# Altium footprint library lib.PcbLib: 39 footprints (part 1 of 3)
Each footprint in its own frame and in the unit in brackets; x right, y up, seen from the top. Pads: shape width x height; smd on the part's side, far side on the other; paste and mask are expansions set on the pad; w line width, h text height; cw(c..) or ccw(c..) is an arc to the next point about the centre after c.
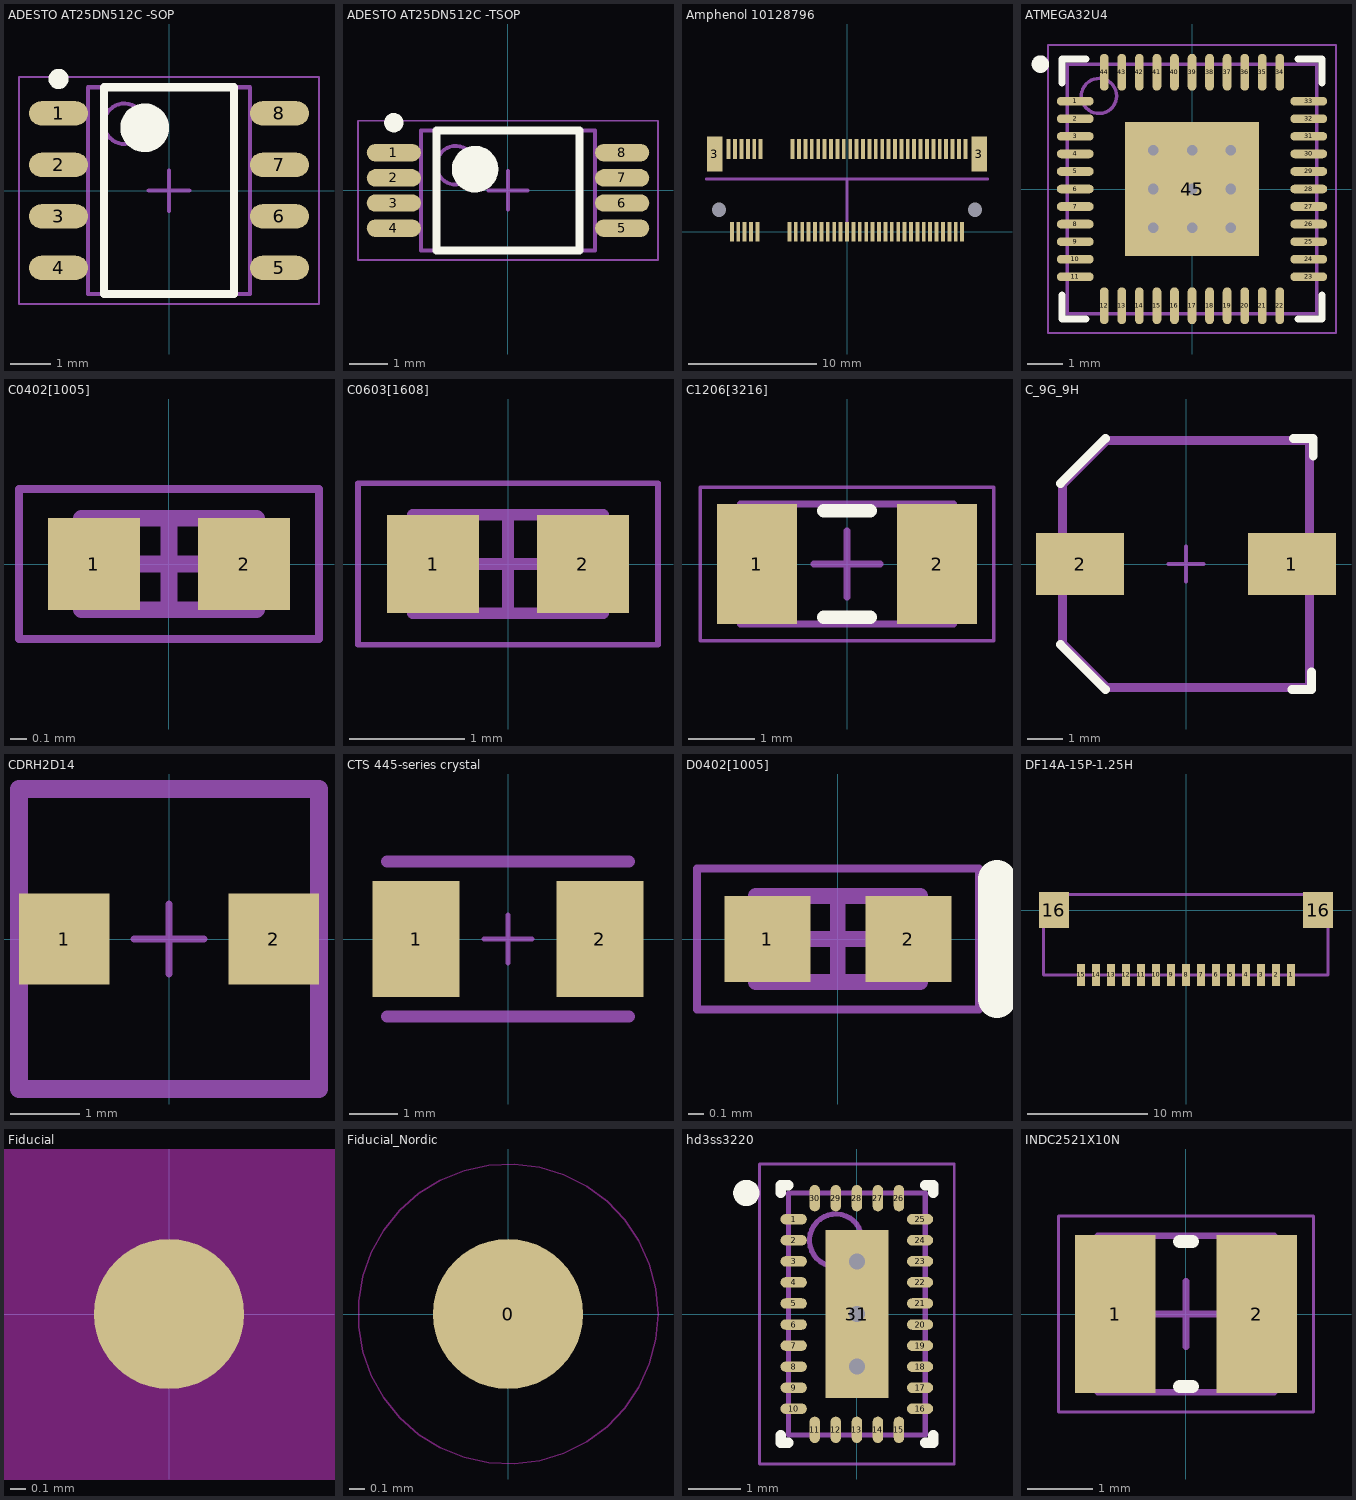
[diagram p0: the footprints below, top view; thin cyan lines are the x and y axes]

## ADESTO AT25DN512C -SOP [mm] "SOIC, 8-Leads, Body 4,92x3,90mm, Pitch 1,27mm, IPC Medium Density"
height 1.75
pads (8):
  oval 1.45x0.6 smd: 1(-2.725,1.905) 2(-2.725,0.635) 3(-2.725,-0.635) 4(-2.725,-1.905) 5(2.725,-1.905) 6(2.725,-0.635) 7(2.725,0.635) 8(2.725,1.905)
Top Overlay:
  circle w0.6: c-0.6,1.55 r0.3
  circle w0.25: c-2.725,2.755 r0.125
  lines w0.2: -1.6,-2.55 1.6,-2.55 1.6,2.55 -1.6,2.55 -1.6,-2.55
Mechanical 13:
  circle w0.1: c-1.1,1.65 r0.5
  lines w0.1: -2,-2.55 2,-2.55 2,2.55 -2,2.55 -2,-2.55
Mechanical 15:
  lines w0.05: -3.7,-2.8 3.7,-2.8 3.7,2.8 -3.7,2.8 -3.7,-2.8
  lines w0.1: -0.5,0 0.5,0 ; 0,-0.5 0,0.5
3D body "ADESTO AT25DN512C.step": height 1.75, standoff 0, extent -2.997,-2.55 2.997,2.55

## ADESTO AT25DN512C -TSOP [mm] "TSOP, 8-Leads, Body 3,00x4,40mm, Pitch 0,65mm, IPC Medium Density"
height 1.2
pads (8):
  oval 1.4x0.45 smd: 1(-2.95,0.975) 2(-2.95,0.325) 3(-2.95,-0.325) 4(-2.95,-0.975) 5(2.95,-0.975) 6(2.95,-0.325) 7(2.95,0.325) 8(2.95,0.975)
Top Overlay:
  circle w0.25: c-2.95,1.75 r0.125
  circle w0.6: c-0.85,0.55 r0.3
  lines w0.2: -1.85,-1.55 -1.85,1.55 1.85,1.55 1.85,-1.55 -1.85,-1.55
Mechanical 13:
  circle w0.1: c-1.35,0.65 r0.5
  lines w0.1: -2.25,-1.55 -2.25,1.55 2.25,1.55 2.25,-1.55 -2.25,-1.55
Mechanical 15:
  lines w0.05: -3.875,-1.8 -3.875,1.8 3.875,1.8 3.875,-1.8 -3.875,-1.8
  lines w0.1: -0.5,0 0.5,0 ; 0,-0.5 0,0.5
3D body "ADESTO AT25DN512C -TSOP.step": height 1.2, standoff 0, extent -3.2,-1.55 3.2,1.55

## Amphenol 10128796 [mm]
pads (71):
  rect 0.3x1.55 smd: 1(-9.25,6.45) 2(-9,0) 3(-8.75,6.45) 4(-8.5,0) 5(-8.25,6.45) 6(-8,0) 7(-7.75,6.45) 8(-7.5,0) 9(-7.25,6.45) 10(-7,0) 11(-6.75,6.45) 20(-4.5,0) 21(-4.25,6.45) 22(-4,0) 23(-3.75,6.45) 24(-3.5,0) 25(-3.25,6.45) 26(-3,0) 27(-2.75,6.45) 28(-2.5,0) 29(-2.25,6.45) 30(-2,0) 31(-1.75,6.45) 32(-1.5,0) 33(-1.25,6.45) 34(-1,0) 35(-0.75,6.45) 36(-0.5,0) 37(-0.25,6.45) 38(0,0) 39(0.25,6.45) 40(0.5,0) 41(0.75,6.45) 42(1,0) 43(1.25,6.45) 44(1.5,0) 45(1.75,6.45) 46(2,0) 47(2.25,6.45) 48(2.5,0) 49(2.75,6.45) 50(3,0) 51(3.25,6.45) 52(3.5,0) 53(3.75,6.45) 54(4,0) 55(4.25,6.45) 56(4.5,0) 57(4.75,6.45) 58(5,0) 59(5.25,6.45) 60(5.5,0) 61(5.75,6.45) 62(6,0) 63(6.25,6.45) 64(6.5,0) 65(6.75,6.45) 66(7,0) 67(7.25,6.45) 68(7.5,0) 69(7.75,6.45) 70(8,0) 71(8.25,6.45) 72(8.5,0) 73(8.75,6.45) 74(9,0) 75(9.25,6.45)
  rect 1.2x2.75 smd: 3(-10.35,6.07) 3(10.35,6.07)
  round 0 hole 1.1 unplated: ""(-10,1.715) ""(10,1.715)
Mechanical 13:
  lines w0.2: -11,4.115 11,4.115 ; 0,-0.025 0,4.115
3D body "10128796.stp": height 0.1, standoff -9, extent -10.928,-0.325 10.922,6.325

## ATMEGA32U4 [mm]
height 1
pads (45):
  oval 1.05x0.25 smd: 1(-3.325,2.5) 2(-3.325,2) 3(-3.325,1.5) 4(-3.325,1) 5(-3.325,0.5) 6(-3.325,0) 7(-3.325,-0.5) 8(-3.325,-1) 9(-3.325,-1.5) 10(-3.325,-2) 11(-3.325,-2.5) 23(3.325,-2.5) 24(3.325,-2) 25(3.325,-1.5) 26(3.325,-1) 27(3.325,-0.5) 28(3.325,0) 29(3.325,0.5) 30(3.325,1) 31(3.325,1.5) 32(3.325,2) 33(3.325,2.5)
  oval 0.25x1.05 smd: 12(-2.5,-3.325) 13(-2,-3.325) 14(-1.5,-3.325) 15(-1,-3.325) 16(-0.5,-3.325) 17(0,-3.325) 18(0.5,-3.325) 19(1,-3.325) 20(1.5,-3.325) 21(2,-3.325) 22(2.5,-3.325) 34(2.5,3.325) 35(2,3.325) 36(1.5,3.325) 37(1,3.325) 38(0.5,3.325) 39(0,3.325) 40(-0.5,3.325) 41(-1,3.325) 42(-1.5,3.325) 43(-2,3.325) 44(-2.5,3.325)
  rect 3.81x3.81 smd paste-1000: 45(0,0)
via 1.1,-1.1 diameter 0.508 hole 0.3
via 0,-1.1 diameter 0.508 hole 0.3
via -1.1,-1.1 diameter 0.508 hole 0.3
via 1.1,0 diameter 0.508 hole 0.3
via 0,0 diameter 0.508 hole 0.3
via -1.1,0 diameter 0.508 hole 0.3
via 1.1,1.1 diameter 0.508 hole 0.3
via 0,1.1 diameter 0.508 hole 0.3
via -1.1,1.1 diameter 0.508 hole 0.3
Top Overlay:
  circle w0.25: c-4.318,3.556 r0.125
  lines w0.2: -3.7,-3.025 -3.7,-3.7 -3.025,-3.7 ; -3.7,3.025 -3.7,3.7 -3.025,3.7 ; 3.025,-3.7 3.7,-3.7 3.7,-3.025 ; 3.025,3.7 3.7,3.7 3.7,3.025
Top Paste:
  rectangle: -1.778,-1.778 -0.254,-0.254
  region: 1.778,-1.778 1.778,-0.254 0.254,-0.254 0.254,-1.778
  region: 1.778,1.778 0.254,1.778 0.254,0.254 1.778,0.254
  region: -1.778,1.778 -1.778,0.254 -0.254,0.254 -0.254,1.778
Mechanical 13:
  circle w0.1: c-2.65,2.65 r0.5
  lines w0.1: -3.55,-3.55 3.55,-3.55 3.55,3.55 -3.55,3.55 -3.55,-3.55
  text ".Designator" at -2.345,-0.152 h0.5
Mechanical 15:
  lines w0.05: -4.1,-4.1 4.1,-4.1 4.1,4.1 -4.1,4.1 -4.1,-4.1
  lines w0.1: -0.5,0 0.5,0 ; 0,-0.5 0,0.5
3D body "ATMEGA32U4-combo.step": height 1, standoff 0, extent -3.6,-3.6 3.6,3.6

## C0402[1005] [mm] "Chip Resistor, 2-Leads, Body 1,00x0,50mm, IPC Medium Density"
height 0.5
pads (2):
  rect 0.55x0.55 smd: 1(-0.45,0) 2(0.45,0)
Mechanical 13:
  lines w0.1: -0.525,-0.275 0.525,-0.275 0.525,0.275 -0.525,0.275 -0.525,-0.275
  text ".Designator" at -0.425,-0.1 h0.2
Mechanical 15:
  lines w0.05: -0.9,-0.45 0.9,-0.45 0.9,0.45 -0.9,0.45 -0.9,-0.45
  lines w0.1: -0.275,0 0.275,0 ; 0,-0.275 0,0.275
3D body: height 0.5, standoff 0, extent -0.325,-0.275 0.325,0.275

## C0603[1608] [mm] "Chip Resistor, 2-Leads, Body 1,57x0,80mm, IPC Medium Density"
height 0.5
pads (2):
  rect 0.8x0.85 smd: 1(-0.65,0) 2(0.65,0)
Mechanical 13:
  lines w0.1: -0.825,-0.425 0.825,-0.425 0.825,0.425 -0.825,0.425 -0.825,-0.425
  text ".Designator" at -1.05,-0.275 h0.35
Mechanical 15:
  lines w0.05: -1.3,-0.7 1.3,-0.7 1.3,0.7 -1.3,0.7 -1.3,-0.7
  lines w0.1: -0.425,0 0.425,0 ; 0,-0.425 0,0.425
3D body: height 0.5, standoff 0, extent -0.525,-0.425 0.525,0.425
3D body: height 0.5, standoff 0, extent 0.525,-0.425 0.825,0.425
3D body: height 0.5, standoff 0, extent -0.825,-0.425 -0.525,0.425

## C1206[3216] [mm]
height 1.2
pads (2):
  rect 1.2x1.8 smd: 1(-1.35,0) 2(1.35,0)
Top Overlay:
  lines w0.2: -0.35,-0.8 0.35,-0.8 ; -0.35,0.8 0.35,0.8
Mechanical 13:
  lines w0.1: -1.6,-0.9 1.6,-0.9 1.6,0.9 -1.6,0.9 -1.6,-0.9
  text ".Designator" at -1.245,-0.152 h0.5
Mechanical 15:
  lines w0.05: -2.2,-1.15 2.2,-1.15 2.2,1.15 -2.2,1.15 -2.2,-1.15
  lines w0.1: -0.5,0 0.5,0 ; 0,-0.5 0,0.5
3D body: height 1.2, standoff 0, extent 1.1,-0.9 1.6,0.9
3D body: height 1.2, standoff 0, extent -1.6,-0.9 -1.1,0.9
3D body: height 1.2, standoff 0, extent -1.1,-0.9 1.1,0.9

## C_9G_9H [mm] "Size 9G and 9H Aluminium capacitor (KEMET)"
pads (2):
  rect 2.5x1.75 smd: 1(3,0) 2(-3,0)
Top Overlay:
  lines w0.254: -3.556,-2.286 -2.286,-3.556 ; -3.556,2.286 -2.286,3.556 ; 3.006,-3.556 3.556,-3.556 ; 3.048,3.556 3.605,3.556 3.605,3.066 ; 3.556,-3.531 3.556,-3.056
Mechanical 13:
  lines w0.254: -3.5,-2.25 -3.5,2.25 -2.25,3.5 -1.5,3.5 3.5,3.5 3.5,-3.5 -1.5,-3.5 -2.25,-3.5 -3.5,-2.25
  text ".Designator" at -2.4,-2.225 h0.5
Mechanical 15:
  lines w0.1: -0.5,0 0.5,0 ; 0,-0.5 0,0.5
3D body "STL@%STL@%STL@%CHEMI-F55.stp": height 5.26, standoff 0, extent -3.594,-3.302 3.594,3.302

## CDRH2D14 [mm]
pads (2):
  rect 1.3x1.3 smd: 1(-1.5,0) 2(1.5,0)
Mechanical 13:
  lines w0.254: -2.15,-2.15 -2.15,2.15 2.15,2.15 2.15,-2.15 -2.15,-2.15
  text ".Designator" at -1.803,0.838 h0.5
Mechanical 15:
  lines w0.1: -0.5,0 0.5,0 ; 0,-0.5 0,0.5
3D body "CDRH2D14.STEP": height 0.76, standoff -0.64, extent -1.761,-1.803 1.812,1.82

## CTS 445-series crystal [mm]
pads (2):
  rect 1.8x2.4 smd: 1(-1.9,0) 2(1.9,0)
Mechanical 13:
  lines w0.254: -2.5,-1.6 2.5,-1.6 ; -2.5,1.6 2.5,1.6
  text ".Designator" at -1.372,-0.152 h0.5
Mechanical 15:
  lines w0.1: -0.5,0 0.5,0 ; 0,-0.5 0,0.5
3D body "ABM3.STEP": height 1.3, standoff 0, extent -2.5,-1.6 2.5,1.6

## D0402[1005] [mm] "Chip Resistor, 2-Leads, Body 1,00x0,50mm, IPC Medium Density"
height 0.5
pads (2):
  rect 0.55x0.55 smd: 1(-0.45,0) 2(0.45,0)
Top Overlay:
  lines w0.245: 1.016,-0.381 1.016,0.381
Mechanical 13:
  lines w0.1: -0.525,-0.275 0.525,-0.275 0.525,0.275 -0.525,0.275 -0.525,-0.275
  text ".Designator" at -0.425,-0.1 h0.2
Mechanical 15:
  lines w0.05: -0.9,-0.45 0.9,-0.45 0.9,0.45 -0.9,0.45 -0.9,-0.45
  lines w0.1: -0.275,0 0.275,0 ; 0,-0.275 0,0.275
3D body: height 0.5, standoff 0, extent -0.325,-0.275 0.325,0.275

## DF14A-15P-1.25H [mm]
pads (17):
  rect 0.7x1.8 smd: 1(8.75,-5.4) 2(7.5,-5.4) 3(6.25,-5.4) 4(5,-5.4) 5(3.75,-5.4) 6(2.5,-5.4) 7(1.25,-5.4) 8(0,-5.4) 9(-1.25,-5.4) 10(-2.5,-5.4) 11(-3.75,-5.4) 12(-5,-5.4) 13(-6.25,-5.4) 14(-7.5,-5.4) 15(-8.75,-5.4)
  rect 2.5x3 smd: 16(-11,0) 16(11,0)
Mechanical 13:
  lines w0.254: -11.875,-5.385 11.825,-5.385 11.825,1.315 -11.875,1.315 -11.875,-5.385
  text ".Designator" at -3.226,-1.702 h0.5

## Fiducial [mm]
pads (1):
  round 1 smd mask+0.5: ""(0,0)
Top Layer keep-out:
  circle w1.5: c0,0 r1

## Fiducial_Nordic [mm]
pads (1):
  round 1 smd paste+0 mask+0.5: 0(0,0)
Top Layer keep-out:
  circle w0.01: c0,0 r1

## hd3ss3220 [mm]
height 0.8
pads (31):
  oval 0.5x0.2 smd: 1(-1.2,1.8) 2(-1.2,1.4) 3(-1.2,1) 4(-1.2,0.6) 5(-1.2,0.2) 6(-1.2,-0.2) 7(-1.2,-0.6) 8(-1.2,-1) 9(-1.2,-1.4) 10(-1.2,-1.8) 16(1.2,-1.8) 17(1.2,-1.4) 18(1.2,-1) 19(1.2,-0.6) 20(1.2,-0.2) 21(1.2,0.2) 22(1.2,0.6) 23(1.2,1) 24(1.2,1.4) 25(1.2,1.8)
  oval 0.2x0.5 smd: 11(-0.8,-2.2) 12(-0.4,-2.2) 13(0,-2.2) 14(0.4,-2.2) 15(0.8,-2.2) 26(0.8,2.2) 27(0.4,2.2) 28(0,2.2) 29(-0.4,2.2) 30(-0.8,2.2)
  rect 1.2x3.2 smd paste-1: 31(0,0)
via 0,-1 diameter 0.508 hole 0.3
via 0,0 diameter 0.508 hole 0.3
via 0,1 diameter 0.508 hole 0.3
Top Overlay:
  circle w0.25: c-2.1,2.3 r0.125
  lines w0.2: -1.45,-2.3 -1.45,-2.45 -1.3,-2.45 ; -1.45,2.3 -1.45,2.45 -1.3,2.45 ; 1.3,-2.45 1.45,-2.45 1.45,-2.3 ; 1.3,2.45 1.45,2.45 1.45,2.3
Top Paste:
  rectangle: -0.584,0.178 0.584,1.499
  region: 0.584,-0.178 -0.584,-0.178 -0.584,-1.499 0.584,-1.499
Mechanical 13:
  circle w0.1: c-0.4,1.4 r0.5
  lines w0.1: -1.3,-2.3 1.3,-2.3 1.3,2.3 -1.3,2.3 -1.3,-2.3
  text ".Designator" at 0.406,1.88 h0.5
Mechanical 15:
  lines w0.05: -1.85,-2.85 1.85,-2.85 1.85,2.85 -1.85,2.85 -1.85,-2.85
  lines w0.1: -0.5,0 0.5,0 ; 0,-0.5 0,0.5
3D body "hd3ss3220.step": height 0.8, standoff 0, extent -1.35,-2.35 1.35,2.35

## INDC2521X10N [mm] "Chip Inductor, 2-Leads, Body 2.50x2.10mm, IPC Medium Density"
height 1
pads (2):
  rect 1.23x2.42 smd: 1(-1.085,0) 2(1.085,0)
Top Overlay:
  lines w0.2: -0.1,-1.11 0.1,-1.11 ; -0.1,1.11 0.1,1.11
Mechanical 13:
  lines w0.1: -1.35,-1.2 1.35,-1.2 1.35,1.2 -1.35,1.2 -1.35,-1.2
  text ".Designator" at -0.991,-0.152 h0.5
Mechanical 15:
  lines w0.05: -1.95,-1.5 1.95,-1.5 1.95,1.5 -1.95,1.5 -1.95,-1.5
  lines w0.1: -0.5,0 0.5,0 ; 0,-0.5 0,0.5
3D body "INDC2521X10N.step": height 1, standoff 0, extent -1.35,-1.2 1.35,1.2